# Altium footprint library FootprintsPersonals.PcbLib: 152 footprints (part 3 of 10)
Each footprint in its own frame and in the unit in brackets; x right, y up, seen from the top. Pads: shape width x height; smd on the part's side, far side on the other; paste and mask are expansions set on the pad; w line width, h text height; cw(c..) or ccw(c..) is an arc to the next point about the centre after c.
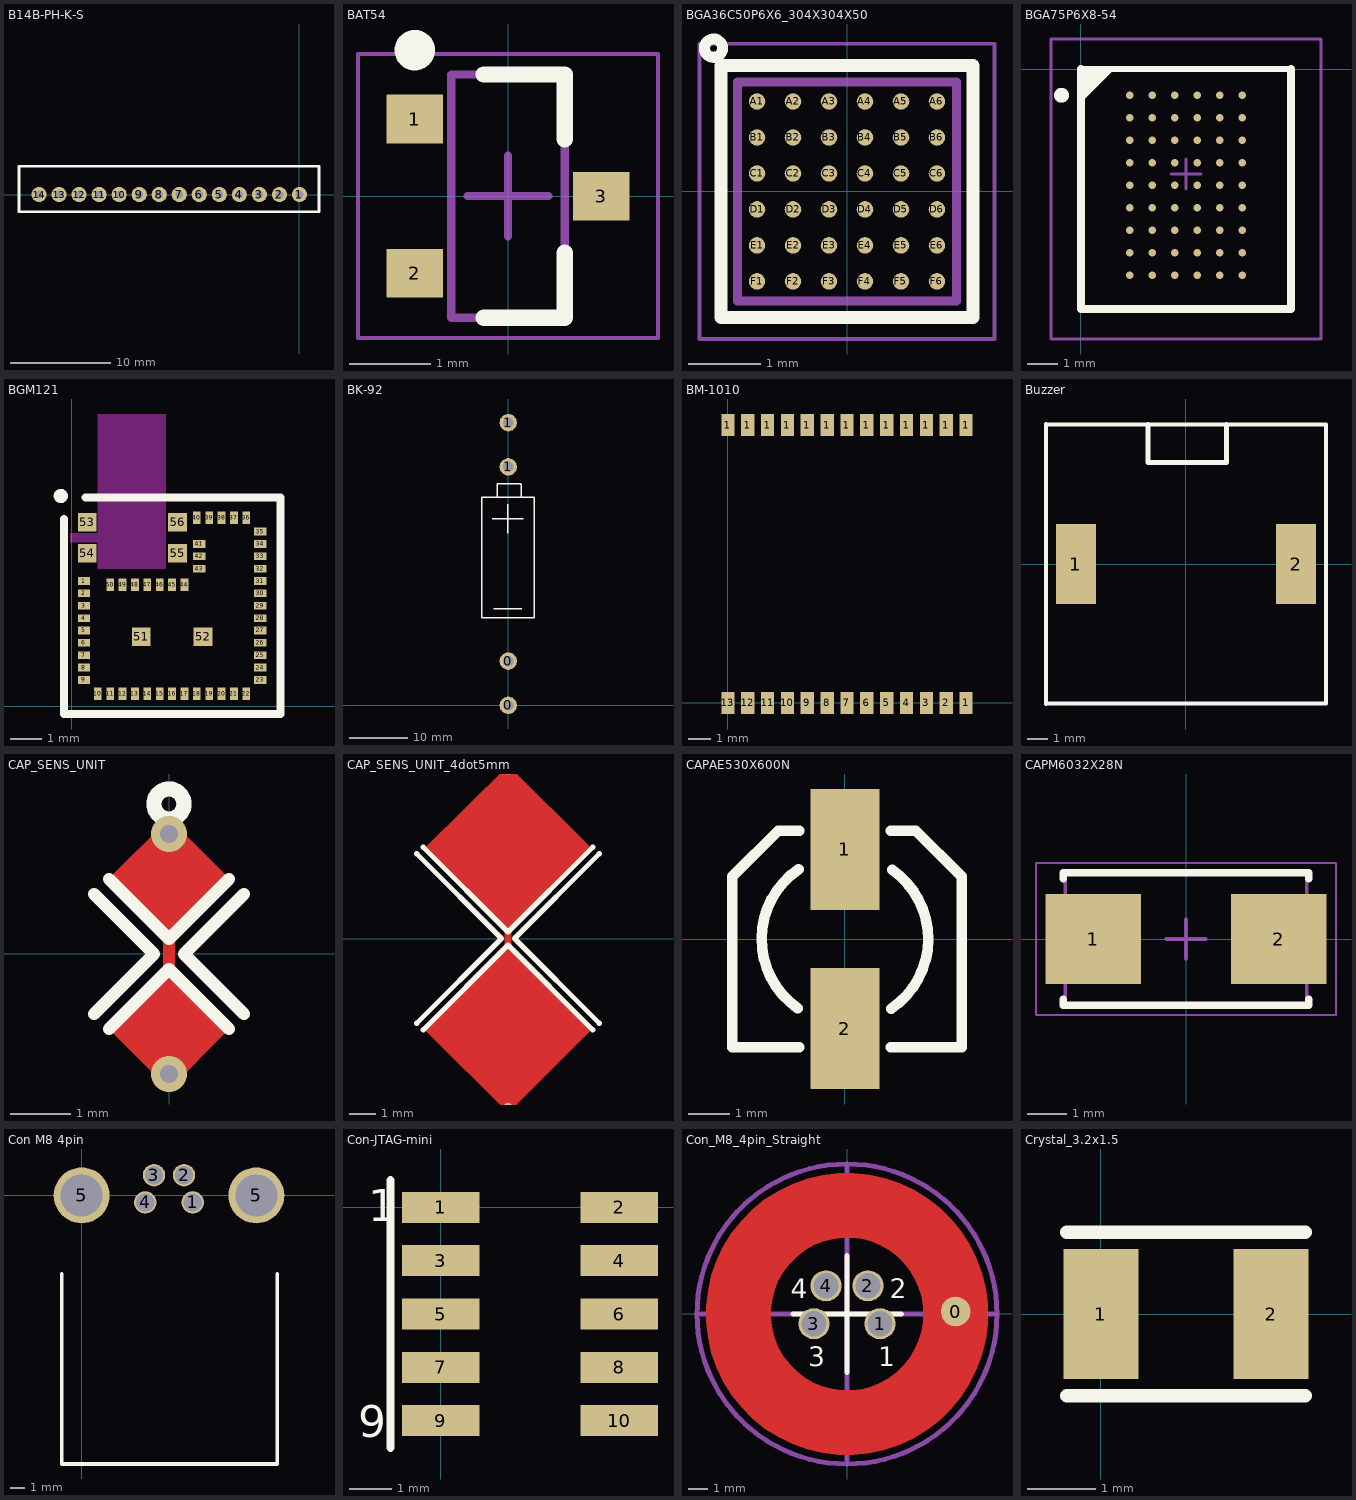
[diagram p2: the footprints below, top view; thin cyan lines are the x and y axes]

## B14B-PH-K-S [mil]
pads (14):
  round 60 hole 30: 1(0,0) 2(-78.74,0) 3(-157.48,0) 4(-236.22,0) 5(-314.96,0) 6(-393.7,0) 7(-472.44,0) 8(-551.18,0) 9(-629.92,0) 10(-708.66,0) 11(-787.4,0) 12(-866.14,0) 13(-944.88,0) 14(-1023.62,0)
Top Overlay:
  lines w10: -1102.36,-66.93 -635.83,-66.93 76.77,-66.93 76.77,110.24 -1102.36,110.24 -1102.36,-66.93
3D body "B14B-PH-K-S.STEP": height 236.7, standoff -133.38, extent -1100.39,-66.93 76.77,110.24

## BAT54 [mm] "SOT23, 3-Leads, Body 2,90x2,30mm, Pitch 0,95mm, IPC Medium Density"
height 1.1
pads (3):
  rect 0.7x0.6 smd: 1(-1.15,0.95) 2(-1.15,-0.95) 3(1.15,0)
Top Overlay:
  circle w0.25: c-1.15,1.8 r0.125
  lines w0.2: -0.3,-1.5 0.7,-1.5 0.7,-0.7 ; -0.3,1.5 0.7,1.5 0.7,0.7
Mechanical 13:
  lines w0.1: -0.7,-1.5 0.7,-1.5 0.7,1.5 -0.7,1.5 -0.7,-1.5
Mechanical 15:
  lines w0.05: -1.85,-1.75 1.85,-1.75 1.85,1.75 -1.85,1.75 -1.85,-1.75
  lines w0.1: -0.5,0 0.5,0 ; 0,-0.5 0,0.5
3D body "BAT54.step": height 1.1, standoff 0, extent -1.31,-1.5 1.31,1.5

## BGA36C50P6X6_304X304X50 [mm] "BGA, 0.5mm pitch, 6X6, 36 pins"
height 0.5
pads (36):
  round 0.23 smd: A1(-1.25,1.25) A2(-0.75,1.25) A3(-0.25,1.25) A4(0.25,1.25) A5(0.75,1.25) A6(1.25,1.25) B1(-1.25,0.75) B2(-0.75,0.75) B3(-0.25,0.75) B4(0.25,0.75) B5(0.75,0.75) B6(1.25,0.75) C1(-1.25,0.25) C2(-0.75,0.25) C3(-0.25,0.25) C4(0.25,0.25) C5(0.75,0.25) C6(1.25,0.25) D1(-1.25,-0.25) D2(-0.75,-0.25) D3(-0.25,-0.25) D4(0.25,-0.25) D5(0.75,-0.25) D6(1.25,-0.25) E1(-1.25,-0.75) E2(-0.75,-0.75) E3(-0.25,-0.75) E4(0.25,-0.75) E5(0.75,-0.75) E6(1.25,-0.75) F1(-1.25,-1.25) F2(-0.75,-1.25) F3(-0.25,-1.25) F4(0.25,-1.25) F5(0.75,-1.25) F6(1.25,-1.25)
Top Overlay:
  circle w0.152: c-1.856,1.991 r0.127
  lines w0.178: -1.75,-1.75 1.75,-1.75 1.75,1.75 -1.75,1.75 -1.75,-1.75
Mechanical 5:
  lines w0.127: -1.52,-1.52 -1.52,1.52 1.52,1.52 1.52,-1.52 -1.52,-1.52
Mechanical 15:
  lines w0.05: -2.05,-2.05 2.05,-2.05 2.05,2.05 -2.05,2.05 -2.05,-2.05
Mechanical 17:
  text "VIAS ARE TO ADDED IN LAYOUT" at -19.685,-3.175 h1.52
  text "NO ROUTING UNDER FIDUCIALS" at -18.669,2.413 h1.52
  text "ON LAYER 2 OR N-1" at -12.065,-0.381 h1.52
3D body: height 0.5, standoff 0, extent -1.524,-1.524 1.524,1.524

## BGA75P6X8-54 [mm] "BGA, 54-Leads, Body 8x6mm, Pitch 0.75mm"
height 1
pads (54):
  round 0.25 smd: A1(1.625,-0.875) A2(2.375,-0.875) A3(3.125,-0.875) A4(3.875,-0.875) A5(4.625,-0.875) A6(5.375,-0.875) B1(1.625,-1.625) B2(2.375,-1.625) B3(3.125,-1.625) B4(3.875,-1.625) B5(4.625,-1.625) B6(5.375,-1.625) C1(1.625,-2.375) C2(2.375,-2.375) C3(3.125,-2.375) C4(3.875,-2.375) C5(4.625,-2.375) C6(5.375,-2.375) D1(1.625,-3.125) D2(2.375,-3.125) D3(3.125,-3.125) D4(3.875,-3.125) D5(4.625,-3.125) D6(5.375,-3.125) E1(1.625,-3.875) E2(2.375,-3.875) E3(3.125,-3.875) E4(3.875,-3.875) E5(4.625,-3.875) E6(5.375,-3.875) F1(1.625,-4.625) F2(2.375,-4.625) F3(3.125,-4.625) F4(3.875,-4.625) F5(4.625,-4.625) F6(5.375,-4.625) G1(1.625,-5.375) G2(2.375,-5.375) G3(3.125,-5.375) G4(3.875,-5.375) G5(4.625,-5.375) G6(5.375,-5.375) H1(1.625,-6.125) H2(2.375,-6.125) H3(3.125,-6.125) H4(3.875,-6.125) H5(4.625,-6.125) H6(5.375,-6.125) J1(1.625,-6.875) J2(2.375,-6.875) J3(3.125,-6.875) J4(3.875,-6.875) J5(4.625,-6.875) J6(5.375,-6.875)
Top Overlay:
  circle w0.25: c-0.65,-0.875 r0.125
  region: 1,0 0,-1 0,0
  lines w0.2: 0,-1 1,0 ; 0,0 7,0
  lines w0.254: 0,0 0,-8 7,-8 7,0
Mechanical 13:
  lines w0.1: 0,-8 7,-8 7,0 0,0 0,-8
Mechanical 15:
  lines w0.1: 3,-3.5 4,-3.5 ; 3.5,-4 3.5,-3 ; -1,-9 8,-9 8,1 -1,1 -1,-9
3D body: height 1, standoff 0, extent 0,-8 7,0

## BGM121 [mm] "Bluetooth Low Energy Blue Gecko module"
height 1.3
pads (56):
  rect 0.4x0.25 smd: 1(0.4,4.05) 2(0.4,3.65) 3(0.4,3.25) 4(0.4,2.85) 5(0.4,2.45) 6(0.4,2.05) 7(0.4,1.65) 8(0.4,1.25) 9(0.4,0.85) 23(6.1,0.85) 24(6.1,1.25) 25(6.1,1.65) 26(6.1,2.05) 27(6.1,2.45) 28(6.1,2.85) 29(6.1,3.25) 30(6.1,3.65) 31(6.1,4.05) 32(6.1,4.45) 33(6.1,4.85) 34(6.1,5.25) 35(6.1,5.65) 41(4.125,5.25) 42(4.125,4.85) 43(4.125,4.45)
  rect 0.25x0.4 smd: 10(0.85,0.4) 11(1.25,0.4) 12(1.65,0.4) 13(2.05,0.4) 14(2.45,0.4) 15(2.85,0.4) 16(3.25,0.4) 17(3.65,0.4) 18(4.05,0.4) 19(4.45,0.4) 20(4.85,0.4) 21(5.25,0.4) 22(5.65,0.4) 36(5.65,6.1) 37(5.25,6.1) 38(4.85,6.1) 39(4.45,6.1) 40(4.05,6.1) 44(3.65,3.925) 45(3.25,3.925) 46(2.85,3.925) 47(2.45,3.925) 48(2.05,3.925) 49(1.65,3.925) 50(1.25,3.925)
  rect 0.6x0.6 smd: 51(2.25,2.25) 52(4.25,2.25) 53(0.5,5.95) 54(0.5,4.95) 55(3.425,4.95) 56(3.425,5.95)
Top Overlay:
  circle w0.254: c-0.35,6.8 r0.1
  lines w0.254: -0.25,6.05 -0.25,-0.25 6.75,-0.25 6.75,6.75 0.45,6.75
Keep-Out Layer:
  pour cut-out: 3.05,4.45 0.85,4.45 0.85,5.3 -0.05,5.3 -0.05,5.6 0.85,5.6 0.85,9.45 3.05,9.45
3D body: height 1.4, standoff 0, extent 0,0 6.5,6.5

## BK-92 [mm]
pads (4):
  round 3 hole 1.8: 0(0,0) 0(0,7.62) 1(0,41.15) 1(0,48.77)
Top Overlay:
  lines w0.254: -2.8,32.2 2.6,32.2 ; -2.5,16.7 2.3,16.7 ; -1.9,36 -1.9,38.2 2.1,38.2 2.2,38.1 2.2,36 ; -0.1,29.7 -0.1,34.7 ; -4.6,15.1 4.5,15.1 4.5,35.9 -4.6,35.9 -4.6,15.1
3D body "Bateria_co_Portabateria.STEP": height 15.2, standoff -4.27, extent -7.005,-1.839 7.005,50.9

## BM-1010 [mm]
pads (26):
  rect 0.6x1 smd: 1(0,12.6) 1(0.9,12.6) 1(1.8,12.6) 1(2.7,12.6) 1(3.6,12.6) 1(4.5,12.6) 1(5.4,12.6) 1(6.3,12.6) 1(7.2,12.6) 1(8.1,12.6) 1(9,12.6) 1(9.9,12.6) 1(10.8,0) 1(10.8,12.6) 2(9.9,0) 3(9,0) 4(8.1,0) 5(7.2,0) 6(6.3,0) 7(5.4,0) 8(4.5,0) 9(3.6,0) 10(2.7,0) 11(1.8,0) 12(0.9,0) 13(0,0)

## Buzzer [mm]
pads (2):
  rect 2x4 smd: 1(-5.5,0) 2(5.5,0)
Top Overlay:
  lines w0.2: -7,-7 -7,7 ; -7,-6.985 7,-6.985 7,6.985 -7,6.985 -7,0 -7,-6.985
  lines w0.254: -1.905,6.985 -1.905,5.08 2.032,5.08 2.032,6.985

## CAP_SENS_UNIT [mm] "PAD unitari per sensat capacitiu."
via 0,-2 diameter 0.6 hole 0.3
via 0,2 diameter 0.6 hole 0.3
Top Layer:
  region: -1,-1.25 0,-0.25 1,-1.25 0,-2.25
  region: 0,0.25 1,1.25 0,2.25 -1,1.25
  lines w0.2: 0,-1.25 0,1.25
Top Overlay:
  circle w0.254: c0,2.5 r0.25
  lines w0.2: -1.25,-1 -0.25,0 -1.25,1 ; -1,-1.25 0,-0.25 1,-1.25 ; -1,1.25 0,0.25 1,1.25 ; 1.25,-1 0.25,0 1.25,1

## CAP_SENS_UNIT_4dot5mm [mm] "PAD unitari per sensat capacitiu."
via 0,6.5 diameter 0.4 hole 0.2
via 0,-6.5 diameter 0.4 hole 0.2
Top Layer:
  region: 0,0.3 3.182,3.482 0,6.664 -3.182,3.482
  region: 0,-6.7 3.182,-3.518 0,-0.336 -3.182,-3.518
  lines w0.254: 0,-3.5 0,3.5
Top Overlay:
  lines w0.2: -3.5,-3.25 -0.25,0 -3.5,3.25 ; -3.25,-3.5 0,-0.25 3.25,-3.5 ; -3.25,3.5 0,0.25 3.25,3.5 ; 3.5,-3.25 0.25,0 3.5,3.25

## CAPAE530X600N [mm]
height 6
pads (2):
  rect 1.65x2.9 smd: 1(0,2.15) 2(0,-2.15)
Top Overlay:
  lines w0.254: -1.135,-1.659 cw(c0.022,0) -1.114,1.673 ; -1.1,-2.6 -2.7,-2.6 -2.7,1.5 -1.6,2.6 -1.1,2.6 ; 1.1,-2.6 2.8,-2.6 2.8,1.5 1.7,2.6 1.1,2.6 ; 1.114,-1.673 ccw(c-0.022,0) 1.135,1.659

## CAPM6032X28N [mm] "Molded Capacitor, 2-Leads, Body 6,00x3,25mm, IPC Medium Density"
height 2.8
pads (2):
  rect 2.45x2.3 smd: 1(-2.375,0) 2(2.375,0)
Top Overlay:
  lines w0.2: -3.15,-1.55 -3.15,-1.7 3.15,-1.7 3.15,-1.55 ; -3.15,1.55 -3.15,1.7 3.15,1.7 3.15,1.55
Mechanical 13:
  lines w0.1: -3.1,-1.7 3.1,-1.7 3.1,1.7 -3.1,1.7 -3.1,-1.7
Mechanical 15:
  lines w0.05: -3.85,-1.95 3.85,-1.95 3.85,1.95 -3.85,1.95 -3.85,-1.95
  lines w0.1: -0.5,0 0.5,0 ; 0,-0.5 0,0.5
3D body "CAPM6032X28N.step": height 2.8, standoff 0, extent -3.32,-1.7 3.32,1.7

## Con M8 4pin [mm]
height 13
pads (6):
  round 1.6 hole 1.3: 1(7.95,-0.5) 2(7.325,1.45) 3(5.175,1.45) 4(4.55,-0.5)
  round 4 hole 3: 5(0,0) 5(12.5,0)
Top Overlay:
  lines w0.254: -1.425,-5.625 -1.425,-19.225 14,-19.225 14,-5.625
3D body "42-01427_42K1A954.stp": height 13.5, standoff -2.4, extent -1.25,-19.199 13.75,1.85

## Con-JTAG-mini [mm]
pads (10):
  rect 1.85x0.74 smd: 1(0,0) 2(4.25,0) 3(0,-1.27) 4(4.25,-1.27) 5(0,-2.54) 6(4.25,-2.54) 7(0,-3.81) 8(4.25,-3.81) 9(0,-5.08) 10(4.25,-5.08)
Top Overlay:
  lines w0.2: -1.2,-5.725 -1.2,0.65
  text "9" at -1.975,-5.475 h0.76
  text "1" at -1.725,-0.325 h0.76
3D body: height 3, standoff 0, extent 0,-5.5 4.3,0.5

## Con_M8_4pin_Straight [mm]
height 13
pads (5):
  round 1.524 all layers, no hole: 0(5.584,0.127)
  round 1.6 hole 1.3: 1(1.7,-0.5) 2(1.075,1.45) 3(-1.7,-0.5) 4(-1.075,1.45)
Top Layer:
  region: 7.237,-0.127 7.23,-0.531 7.126,-1.333 6.934,-2.118 6.655,-2.877 6.293,-3.6 5.853,-4.278 5.34,-4.903 4.761,-5.468 4.123,-5.964 3.433,-6.386 2.701,-6.728 1.935,-6.987 1.145,-7.159 0.341,-7.242 -0.468,-7.235 -1.27,-7.138 -2.057,-6.952 -2.818,-6.68 -3.545,-6.324 -4.227,-5.89 -4.856,-5.383 -5.425,-4.809 -5.927,-4.175 -6.355,-3.489 -6.704,-2.76 -6.97,-1.996 -7.148,-1.208 -7.239,-0.404 -7.239,0.404 -7.149,1.208 -6.97,1.996 -6.704,2.76 -6.355,3.489 -5.927,4.175 -5.425,4.809 -4.856,5.383 -4.227,5.89 -3.545,6.324 -2.819,6.68 -2.057,6.952 -1.271,7.138 -0.468,7.235 0.34,7.242 1.145,7.159 1.935,6.987 2.701,6.728 3.433,6.386 4.122,5.964 4.761,5.468 5.34,4.904 5.853,4.279 6.293,3.6 6.654,2.877 6.933,2.119 7.126,1.333 7.23,0.532 7.237,0.127 3.931,0.127 3.914,0.379 3.834,0.876 3.69,1.359 3.486,1.82 3.225,2.251 2.911,2.644 2.549,2.995 2.145,3.296 1.706,3.543 1.239,3.732 0.752,3.86 0.252,3.925 0,3.933 -0.257,3.924 -0.767,3.857 -1.264,3.724 -1.739,3.527 -2.185,3.27 -2.593,2.957 -2.957,2.593 -3.27,2.185 -3.527,1.739 -3.724,1.264 -3.857,0.767 -3.924,0.257 -3.933,0 -3.924,-0.257 -3.857,-0.767 -3.724,-1.264 -3.527,-1.739 -3.27,-2.185 -2.957,-2.593 -2.593,-2.957 -2.185,-3.27 -1.739,-3.527 -1.264,-3.724 -0.767,-3.857 -0.257,-3.924 0,-3.933 0.252,-3.925 0.752,-3.86 1.239,-3.732 1.706,-3.543 2.145,-3.296 2.549,-2.995 2.911,-2.644 3.225,-2.251 3.486,-1.82 3.69,-1.359 3.834,-0.876 3.914,-0.379 3.931,-0.127
  lines w0.254: 4.055,0 7.125,0
Top Overlay:
  lines w0.254: -2.78,0 2.815,0 ; 0,-3 0,3
  text "4" at -2.9,0.8 h1
  text "3" at -2,-2.7 h1
  text "2" at 2.2,0.8 h1
  text "1" at 1.6,-2.7 h1
Mechanical 1:
  circle w0.254: c0,0 r7.715
Mechanical 15:
  lines w0.254: -7.5,0 7.5,0 ; 0,-7.5 0,7.53
3D body "42-01144.stp": height 19, standoff -3.5, extent -7.5,-7.5 7.5,7.5

## Crystal_3.2x1.5 [mm]
pads (2):
  rect 1.1x1.9 smd: 1(0,0) 2(2.5,0)
Top Overlay:
  lines w0.2: -0.5,-1.2 3,-1.2 ; -0.5,1.2 3,1.2
3D body: height 0.9, standoff 0, extent -0.4,-0.75 2.8,0.75